# EAGLE library part TI_DRV2603 (library rumbleaction_parts_lib)
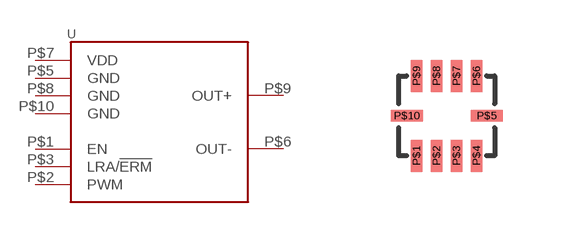
[diagram p3: symbol with the pads of TI_S-PWQFN-N10; footprint TI_S-PWQFN-N10]

Designator prefix -

## TI_DRV2603  [TI_S-PWQFN-N10]
P$1  EN
P$2  PWM
P$3  LRA/!ERM!
P$5  GND
P$6  OUT-
P$7  VDD
P$8  GND
P$9  OUT+
P$10  GND

## Footprint TI_S-PWQFN-N10 (pad centres in mm)
smd 0.28 x 0.8: P$1 0.65,-1; P$2 1.15,-1; P$3 1.65,-1; P$4 2.15,-1; P$6 2.15,1; P$7 1.65,1; P$8 1.15,1; P$9 0.65,1
smd 0.8 x 0.28: P$5 2.4,0; P$10 0.4,0